# EAGLE library part LP38798 (library ICs)
LDO Voltage Regulator, Adjustable, 3V to 20V in, 200mV drop, 1.2V to 19.8V/0.8A out, WSON-12
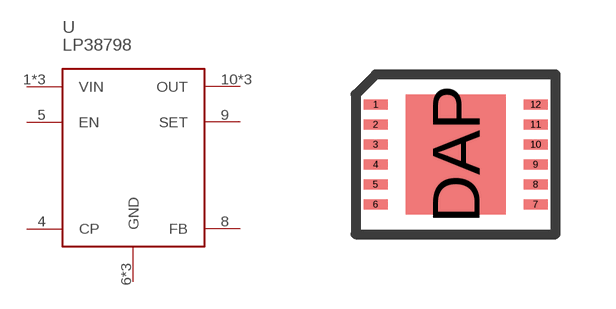
[diagram p117: symbol with the pads of WSON12_WIDE; footprint WSON12_WIDE]

Designator prefix U

## LP38798D-ADJ/NOPB (FARNELL: 2492293; PRICE_PER: 2.4; VALUE: LP38798)  [WSON12_WIDE]
1  VIN
2  VIN
3  VIN
4  CP
5  EN
6  GND
7  GND
8  FB
9  SET
10  OUT
11  OUT
12  OUT
DAP  GND

## Footprint WSON12_WIDE (pad centres in mm)
smd 0.6 x 0.25: 1 -2,1.25; 2 -2,0.75; 3 -2,0.25; 4 -2,-0.25; 5 -2,-0.75; 6 -2,-1.25; 7 2,-1.25; 8 2,-0.75; 9 2,-0.25; 10 2,0.25; 11 2,0.75; 12 2,1.25
smd 2.5 x 3: DAP 0,0